# EAGLE library part CON_SHROUDED_10P (library jesse)
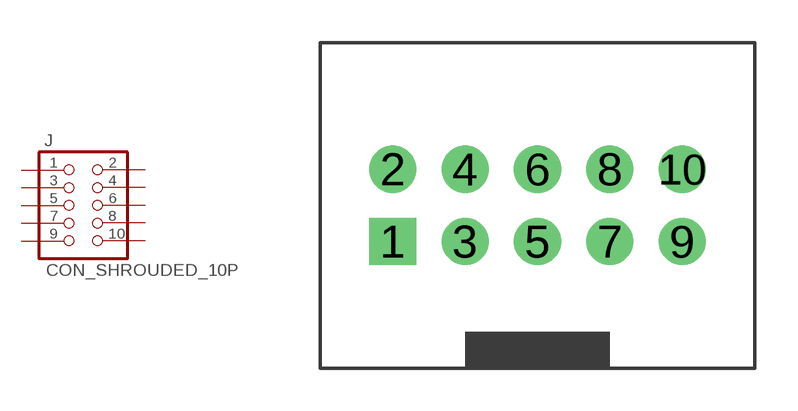
[diagram p5: symbol with the pads of CON_SHROUDED_10P; footprint CON_SHROUDED_10P]

Designator prefix J

## CON_SHROUDED_10P  [CON_SHROUDED_10P]
1  1  pas
2  2  pas
3  3  pas
4  4  pas
5  5  pas
6  6  pas
7  7  pas
8  8  pas
9  9  pas
10  10  pas

## Footprint CON_SHROUDED_10P (pad centres in mm)
drill 1.1 square: 1 0,0
drill 1.1: 2 0,2.54; 3 2.54,0; 4 2.54,2.54; 5 5.08,0; 6 5.08,2.54; 7 7.62,0; 8 7.62,2.54; 9 10.16,0; 10 10.16,2.54